# EAGLE library part TDA8579 (library Ketturi electronics)
Dual common-mode rejection differential line receiver
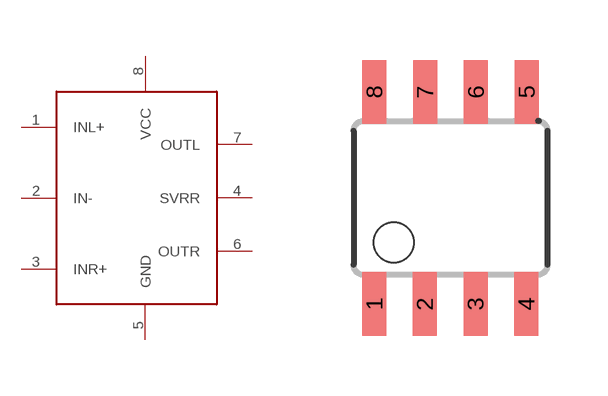
[diagram p4: symbol with the pads of 8S1; footprint 8S1]

Designator prefix -

## TDA8579  [8S1]
1  INL+  in
2  IN-  in
3  INR+  in
4  SVRR
5  GND  pwr
6  OUTR  out
7  OUTL  out
8  VCC  pwr

## Footprint 8S1 (pad centres in mm)
8S1 8-lead (0.150" Wide Body) Plastic Gull Wing Small Outline (JEDEC SOIC) Source: http://www.atmel.com/dyn/resources/prod_documents/2535S.pdf
smd 0.6 x 1.6: 1 -1.905,-2.654; 2 -0.645,-2.654; 3 0.625,-2.654; 4 1.895,-2.654; 5 1.905,2.654; 6 0.635,2.654; 7 -0.635,2.654; 8 -1.905,2.654